# Altium footprint library DCDC.PcbLib: 5 footprints
Each footprint in its own frame and in the unit in brackets; x right, y up, seen from the top. Pads: shape width x height; smd on the part's side, far side on the other; paste and mask are expansions set on the pad; w line width, h text height; cw(c..) or ccw(c..) is an arc to the next point about the centre after c.
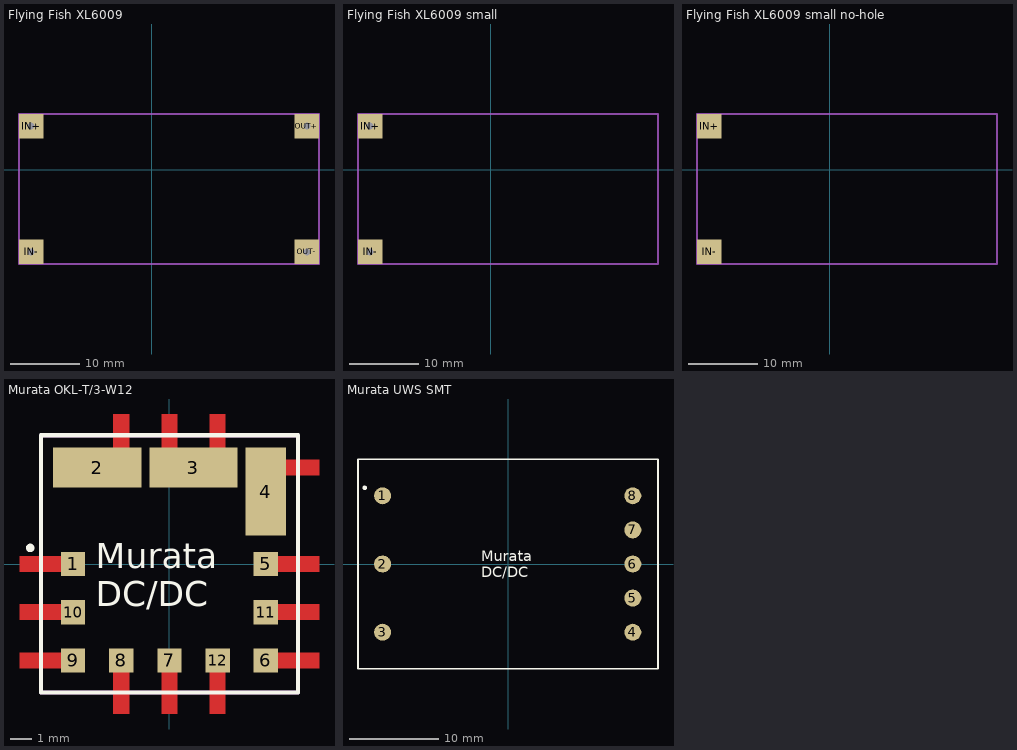
[diagram p0: the footprints below, top view; thin cyan lines are the x and y axes]

## Flying Fish XL6009 [mm]
pads (4):
  rect 3.5x3.5 hole 1: IN+(-17.25,6.25) IN-(-17.25,-11.75) OUT+(22.25,6.25) OUT-(22.25,-11.75)
Mechanical 1:
  lines w0.254: -19,-13.5 24,-13.5 24,8 -19,8 -19,-13.5

## Flying Fish XL6009 small [mm]
pads (2):
  rect 3.5x3.5 hole 1: IN+(-17.25,6.25) IN-(-17.25,-11.75)
Mechanical 1:
  lines w0.254: -19,-13.5 24,-13.5 24,8 -19,8 -19,-13.5

## Flying Fish XL6009 small no-hole [mm]
pads (2):
  rect 3.5x3.5 all layers, no hole: IN+(-17.25,6.25) IN-(-17.25,-11.75)
Mechanical 1:
  lines w0.254: -19,-13.5 24,-13.5 24,8 -19,8 -19,-13.5

## Murata OKL-T/3-W12 [mm] "Murata OKL-T/3-W12 series"
height 6.35
pads (12):
  rect 1.15x1.15 smd: 1(-4.57,0.005) 5(4.57,0.005) 6(4.57,-4.575) 7(0,-4.575) 8(-2.29,-4.575) 9(-4.57,-4.575) 10(-4.57,-2.285) 11(4.57,-2.285) 12(2.29,-4.575)
  rect 4.19x1.91 smd: 2(-3.43,4.575) 3(1.14,4.575)
  rect 1.91x4.19 smd: 4(4.57,3.435)
Top Layer:
  region: 7.112,-2.667 7.112,-1.905 5.08,-1.905 5.08,-2.667
  region: 2.667,-5.08 1.905,-5.08 1.905,-7.112 2.667,-7.112
  region: 0.381,-5.08 -0.381,-5.08 -0.381,-7.112 0.381,-7.112
  region: -1.905,-5.08 -2.667,-5.08 -2.667,-7.112 -1.905,-7.112
  region: 7.112,-4.953 7.112,-4.191 5.08,-4.191 5.08,-4.953
  region: 7.112,-0.381 7.112,0.381 5.08,0.381 5.08,-0.381
  rectangle: -0.381,5.334 0.381,7.112
  rectangle: 1.905,5.334 2.667,7.112
  rectangle: -2.667,5.334 -1.905,7.112
  region: 7.112,4.191 7.112,4.953 5.334,4.953 5.334,4.191
  region: -5.08,-4.953 -5.08,-4.191 -7.112,-4.191 -7.112,-4.953
  region: -5.08,-2.667 -5.08,-1.905 -7.112,-1.905 -7.112,-2.667
  region: -5.08,-0.381 -5.08,0.381 -7.112,0.381 -7.112,-0.381
Top Overlay:
  circle w0.2: c-6.604,0.762 r0.102
  lines w0.2: -6.095,-6.09 -6.095,6.1 6.095,6.1 6.095,-6.09 -6.095,-6.09
  text "Murata / DC/DC" at -3.5,-2 h1.2
Top Solder:
  region: 7.112,-2.667 7.112,-1.905 5.08,-1.905 5.08,-2.667
  region: -5.08,-0.381 -5.08,0.381 -7.112,0.381 -7.112,-0.381
  region: -5.08,-2.667 -5.08,-1.905 -7.112,-1.905 -7.112,-2.667
  region: -5.08,-4.953 -5.08,-4.191 -7.112,-4.191 -7.112,-4.953
  region: 7.112,4.191 7.112,4.953 5.334,4.953 5.334,4.191
  rectangle: -2.667,5.334 -1.905,7.112
  rectangle: 1.905,5.334 2.667,7.112
  rectangle: -0.381,5.334 0.381,7.112
  region: 7.112,-0.381 7.112,0.381 5.08,0.381 5.08,-0.381
  region: 7.112,-4.953 7.112,-4.191 5.08,-4.191 5.08,-4.953
  region: -1.905,-5.08 -2.667,-5.08 -2.667,-7.112 -1.905,-7.112
  region: 0.381,-5.08 -0.381,-5.08 -0.381,-7.112 0.381,-7.112
  region: 2.667,-5.08 1.905,-5.08 1.905,-7.112 2.667,-7.112
Mechanical 15:
  lines w0.2: -6.095,-6.09 6.095,-6.09 6.095,6.1 -6.095,6.1 -6.095,-6.09
3D body: height 6.3, standoff -0.03, extent -6.195,-6.2 6.2,6.195

## Murata UWS SMT [mm] "Murata UWS Series Converter - Surface Mount Variant"
pads (8):
  round 1.9 smd: 1(-14,7.62) 2(-14,0) 3(-14,-7.62) 4(13.94,-7.62) 5(13.94,-3.81) 6(13.94,0) 7(13.94,3.81) 8(13.94,7.62)
Top Overlay:
  circle w0.3: c-16,8.5 r0.102
  lines w0.2: -16.75,-11.7 16.75,-11.7 16.75,11.7 -16.75,11.7 -16.75,-11.7
  text "Murata / DC/DC" at -3,-1.5 h1.2
3D body: height 9.02, standoff -0.12, extent -16.637,-11.6 16.637,11.514